# EAGLE library part LT3050 (library IC)
The LT®3050 series are micro-power, low noise, low dropout voltage (LDO) linear regulators. The devices supply 100mA of output current with a dropout voltage of 340mV. A 10nF bypass capacitor reduces output noise to 30?VRMS in a 10Hz to 100kHz bandwidth and soft-starts the reference. The LT3050?s ±45V input voltage rating combined with its precision current limit and diagnostic functions make the IC an ideal choice for robust, high reliability applications.
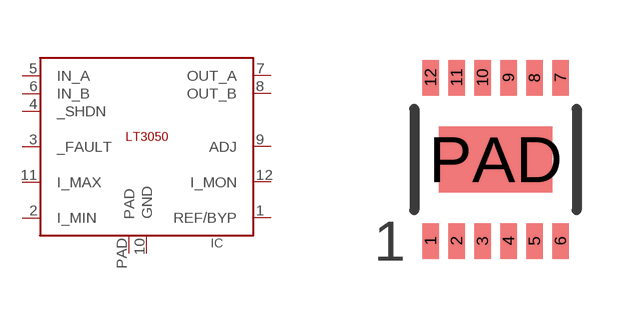
[diagram p186: symbol with the pads of MSOP-12; footprint MSOP-12]

Designator prefix IC

## LT3050-MSOP-12  [MSOP-12]
1  REF/BYP
2  I_MIN
3  _FAULT
4  _SHDN
5  IN_A
6  IN_B
7  OUT_A
8  OUT_B
9  ADJ
10  GND
11  I_MAX
12  I_MON
PAD  PAD

## Footprint MSOP-12 (pad centres in mm)
12 lead Plastic MSOP with exposed pad
smd 0.42 x 0.889: 1 -1.625,-2.045; 2 -0.975,-2.045; 3 -0.325,-2.045; 4 0.325,-2.045; 5 0.975,-2.045; 6 1.625,-2.045; 7 1.625,2.045; 8 0.975,2.045; 9 0.325,2.045; 10 -0.325,2.045; 11 -0.975,2.045; 12 -1.625,2.045
smd 2.845 x 1.651: PAD 0,0